# Altium footprint library CRYSTAL 32.786kHz.PcbLib: 1 footprints
Each footprint in its own frame and in the unit in brackets; x right, y up, seen from the top. Pads: shape width x height; smd on the part's side, far side on the other; paste and mask are expansions set on the pad; w line width, h text height; cw(c..) or ccw(c..) is an arc to the next point about the centre after c.
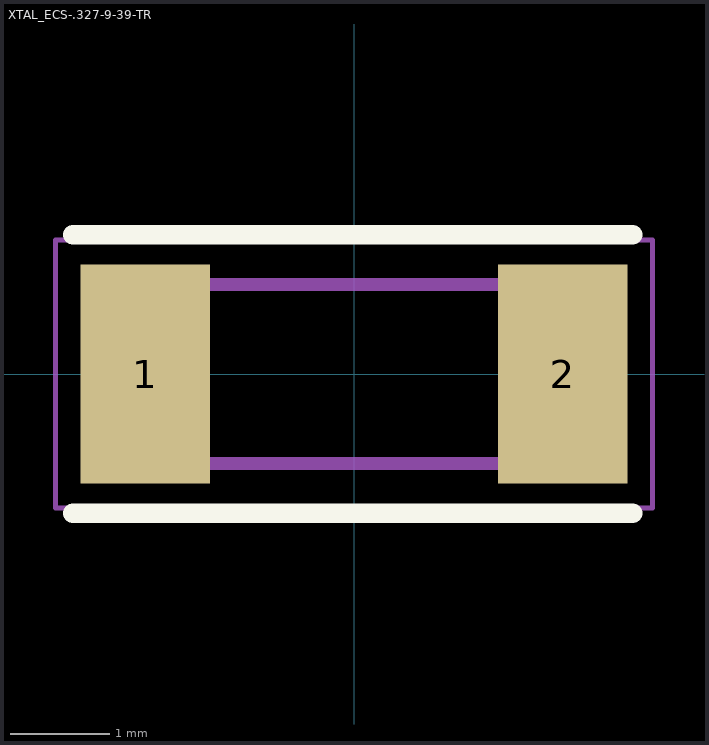
[diagram p0: the footprint, top view; thin cyan lines are the x and y axes]

## XTAL_ECS-.327-9-39-TR [mm]
pads (2):
  rect 1.3x2.2 smd: 1(-2.1,0) 2(2.1,0)
Top Overlay:
  lines w0.2: -2.825,-1.4 2.8,-1.4 ; -2.825,1.4 2.8,1.4
Mechanical 4:
  lines w0.127: -2.45,-0.9 2.45,-0.9 ; -2.45,-0.9 -2.45,0.9 ; -2.45,-0.9 2.45,-0.9 ; -2.45,-0.9 -2.45,0.9 ; -2.45,0.9 2.45,0.9 ; -2.45,0.9 2.45,0.9 ; 2.45,-0.9 2.45,0.9 ; 2.45,-0.9 2.45,0.9
Mechanical 16:
  lines w0.05: -3,-1.35 3,-1.35 3,1.35 -3,1.35 -3,-1.35
3D body "32.768 crystal.STEP": height 0.99, standoff -0.01, extent -2.45,-0.9 2.45,0.9